# EAGLE library part BGA715N7E6327XTSA2 (library RF Amplifier)
IC AMP GPS 1.55-1.615GHZ TSNP7-1 Manufacturer's datasheet <https://www.infineon.com/dgdl/BGA715N7.pdf?folderId=db3a30431f848401011fcbf2ab4c04c4&fileId=db3a30433db6f09f013dcae19fc754fb>
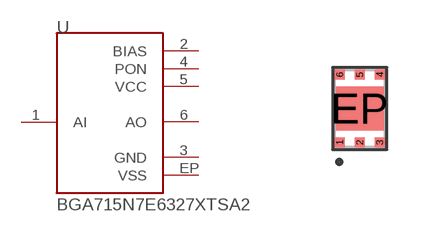
[diagram p0: symbol with the pads of BGA715N7E6327XTSA2; footprint BGA715N7E6327XTSA2]

Designator prefix U

## BGA715N7E6327XTSA2 (CREATED_BY: PCBLayout.com; DIGIKEY_PARTNO: BGA715N7E6327XTSA2CT-ND; MANUFACTURER: Infineon Technologies; MPN: BGA715N7E6327XTSA2; PACKAGE: TSNP-7)  [BGA715N7E6327XTSA2]
1  AI  in
2  BIAS  pwr
3  GND  pwr
4  PON  pwr
5  VCC  pwr
6  AO  out
EP  VSS  pwr

## Footprint BGA715N7E6327XTSA2 (pad centres in mm)
smd 0.25 x 0.25: 1 -0.5,-0.85; 2 0,-0.85; 3 0.5,-0.85; 4 0.5,0.85; 5 0,0.85; 6 -0.5,0.85
smd 1.2 x 1.1: EP 0,0